# Altium footprint library WR-TBL_Spring Clamp_5.08mm.PcbLib: 47 footprints (part 1 of 3)
Each footprint in its own frame and in the unit in brackets; x right, y up, seen from the top. Pads: shape width x height; smd on the part's side, far side on the other; paste and mask are expansions set on the pad; w line width, h text height; cw(c..) or ccw(c..) is an arc to the next point about the centre after c.
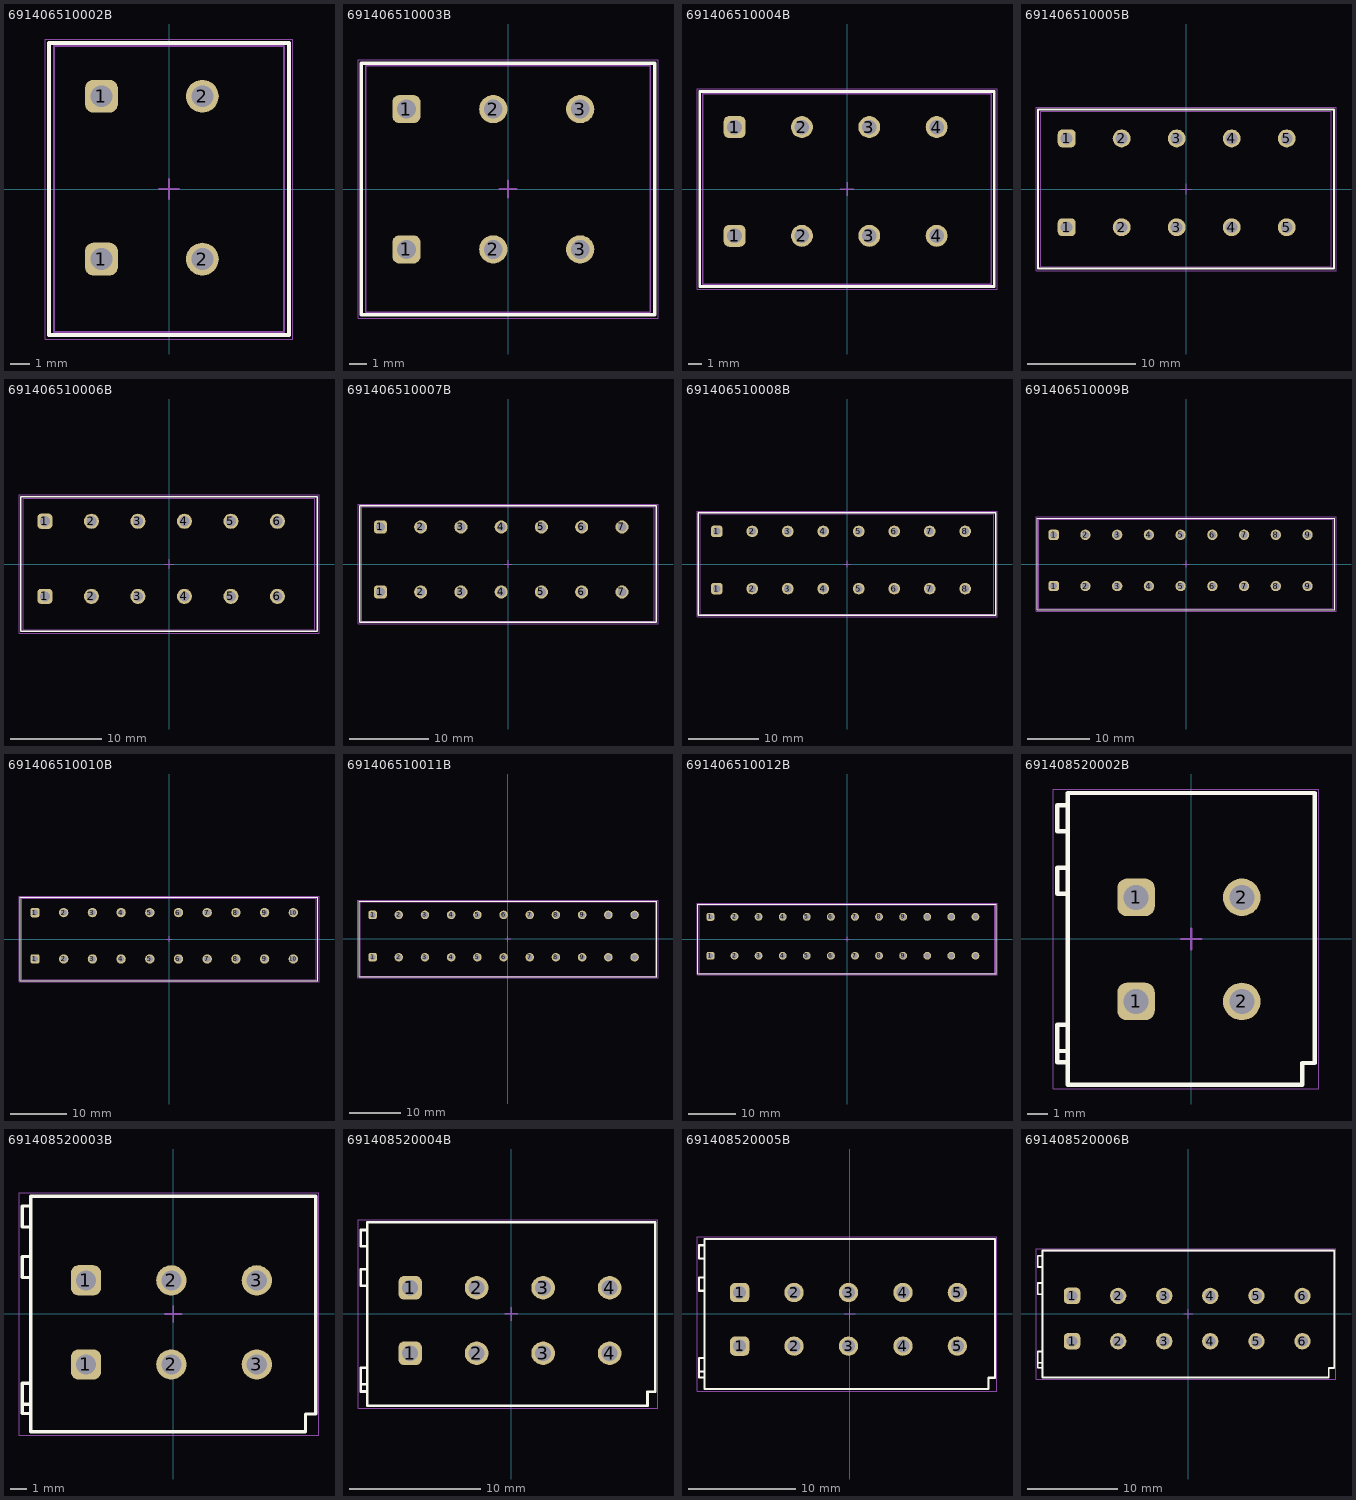
[diagram p0: the footprints below, top view; thin cyan lines are the x and y axes]

## 691406510002B [mm] "SERIE 4065B - 5.08MM HORIZONTAL SCREWLESS PUSH IN, 2p"
height 13.5
pads (4):
  rrect50% 1.65x1.65 hole 1.1: 1(-3.4,-3.53) 1(-3.4,4.67)
  round 1.65 hole 1.1: 2(1.68,-3.53) 2(1.68,4.67)
Top Overlay:
  lines w0.2: -6.03,-7.35 -6.03,7.35 6.03,7.35 6.03,-7.35 -6.03,-7.35
Top Assembly:
  lines w0.1: -5.78,-7.2 5.78,-7.2 5.78,7.2 -5.78,7.2 -5.78,-7.2
Top Designator:
  text ".Designator" at -3.647,-0.357 h1
Top 3D Body:
  lines w0.1: -5.78,-7.2 -5.78,7.2 5.78,7.2 5.78,-7.2 -5.78,-7.2
Top Courtyard:
  lines w0.05: -6.23,-7.55 6.23,-7.55 6.23,7.55 -6.23,7.55 -6.23,-7.55
Top Component Center:
  lines w0.1: -0.5,0 0.5,0 ; 0,-0.5 0,0.5
3D body "691406510002B.stp": height 13.55, standoff -2.45, extent -5.78,-7.2 5.78,7.2

## 691406510003B [mm] "SERIE 4065B - 5.08MM HORIZONTAL SCREWLESS PUSH IN, 3p"
height 13.5
pads (6):
  rrect50% 1.65x1.65 hole 1.1: 1(-5.94,-3.53) 1(-5.94,4.67)
  round 1.65 hole 1.1: 2(-0.86,-3.53) 2(-0.86,4.67) 3(4.22,-3.53) 3(4.22,4.67)
Top Overlay:
  lines w0.2: -8.57,-7.35 8.57,-7.35 8.57,7.35 -8.57,7.35 -8.57,-7.35
Top Assembly:
  lines w0.1: -8.32,-7.2 -8.32,7.2 8.32,7.2 8.32,-7.2 -8.32,-7.2
Top Designator:
  text ".Designator" at -3.647,-0.357 h1
Top 3D Body:
  lines w0.1: -8.32,-7.2 8.32,-7.2 8.32,7.2 -8.32,7.2 -8.32,-7.2
Top Courtyard:
  lines w0.05: -8.77,-7.55 -8.77,7.55 8.77,7.55 8.77,-7.55 -8.77,-7.55
Top Component Center:
  lines w0.1: -0.5,0 0.5,0 ; 0,-0.5 0,0.5
3D body "691406510003B.stp": height 13.55, standoff -2.45, extent -8.32,-7.2 8.32,7.2

## 691406510004B [mm] "SERIE 4065B - 5.08MM HORIZONTAL SCREWLESS PUSH IN, 4p"
height 13.5
pads (8):
  rrect50% 1.65x1.65 hole 1.1: 1(-8.48,-3.53) 1(-8.48,4.67)
  round 1.65 hole 1.1: 2(-3.4,-3.53) 2(-3.4,4.67) 3(1.68,-3.53) 3(1.68,4.67) 4(6.76,-3.53) 4(6.76,4.67)
Top Overlay:
  lines w0.2: -11.11,-7.35 -11.11,7.35 11.11,7.35 11.11,-7.35 -11.11,-7.35
Top Assembly:
  lines w0.1: -10.86,-7.2 10.86,-7.2 10.86,7.2 -10.86,7.2 -10.86,-7.2
Top Designator:
  text ".Designator" at -3.647,-0.357 h1
Top 3D Body:
  lines w0.1: -10.86,-7.2 -10.86,7.2 10.86,7.2 10.86,-7.2 -10.86,-7.2
Top Courtyard:
  lines w0.05: -11.31,-7.55 11.31,-7.55 11.31,7.55 -11.31,7.55 -11.31,-7.55
Top Component Center:
  lines w0.1: -0.5,0 0.5,0 ; 0,-0.5 0,0.5
3D body "691406510004B.stp": height 13.55, standoff -2.45, extent -10.86,-7.2 10.86,7.2

## 691406510005B [mm] "SERIE 4065B - 5.08MM HORIZONTAL SCREWLESS PUSH IN, 5p"
height 13.5
pads (10):
  rrect50% 1.65x1.65 hole 1.1: 1(-11.02,-3.53) 1(-11.02,4.67)
  round 1.65 hole 1.1: 2(-5.94,-3.53) 2(-5.94,4.67) 3(-0.86,-3.53) 3(-0.86,4.67) 4(4.22,-3.53) 4(4.22,4.67) 5(9.3,-3.53) 5(9.3,4.67)
Top Overlay:
  lines w0.2: -13.65,-7.35 13.65,-7.35 13.65,7.35 -13.65,7.35 -13.65,-7.35
Top Assembly:
  lines w0.1: -13.4,-7.2 -13.4,7.2 13.4,7.2 13.4,-7.2 -13.4,-7.2
Top Designator:
  text ".Designator" at -3.647,-0.357 h1
Top 3D Body:
  lines w0.1: -13.4,-7.2 13.4,-7.2 13.4,7.2 -13.4,7.2 -13.4,-7.2
Top Courtyard:
  lines w0.05: -13.85,-7.55 -13.85,7.55 13.85,7.55 13.85,-7.55 -13.85,-7.55
Top Component Center:
  lines w0.1: -0.5,0 0.5,0 ; 0,-0.5 0,0.5
3D body "691406510005B.stp": height 13.55, standoff -2.45, extent -13.4,-7.2 13.4,7.2

## 691406510006B [mm] "SERIE 4065B - 5.08MM HORIZONTAL SCREWLESS PUSH IN, 6p"
height 13.5
pads (12):
  rrect50% 1.65x1.65 hole 1.1: 1(-13.56,-3.53) 1(-13.56,4.67)
  round 1.65 hole 1.1: 2(-8.48,-3.53) 2(-8.48,4.67) 3(-3.4,-3.53) 3(-3.4,4.67) 4(1.68,-3.53) 4(1.68,4.67) 5(6.76,-3.53) 5(6.76,4.67) 6(11.84,-3.53) 6(11.84,4.67)
Top Overlay:
  lines w0.2: -16.19,-7.35 -16.19,7.35 16.19,7.35 16.19,-7.35 -16.19,-7.35
Top Assembly:
  lines w0.1: -15.94,-7.2 15.94,-7.2 15.94,7.2 -15.94,7.2 -15.94,-7.2
Top Designator:
  text ".Designator" at -3.647,-0.357 h1
Top 3D Body:
  lines w0.1: -15.94,-7.2 -15.94,7.2 15.94,7.2 15.94,-7.2 -15.94,-7.2
Top Courtyard:
  lines w0.05: -16.39,-7.55 16.39,-7.55 16.39,7.55 -16.39,7.55 -16.39,-7.55
Top Component Center:
  lines w0.1: -0.5,0 0.5,0 ; 0,-0.5 0,0.5
3D body "691406510006B.stp": height 13.55, standoff -2.45, extent -15.94,-7.2 15.94,7.2

## 691406510007B [mm] "SERIE 4065B - 5.08MM HORIZONTAL SCREWLESS PUSH IN, 7p"
height 13.5
pads (14):
  rrect50% 1.65x1.65 hole 1.1: 1(-16.1,-3.53) 1(-16.1,4.67)
  round 1.65 hole 1.1: 2(-11.02,-3.53) 2(-11.02,4.67) 3(-5.94,-3.53) 3(-5.94,4.67) 4(-0.86,-3.53) 4(-0.86,4.67) 5(4.22,-3.53) 5(4.22,4.67) 6(9.3,-3.53) 6(9.3,4.67) 7(14.38,-3.53) 7(14.38,4.67)
Top Overlay:
  lines w0.2: -18.73,-7.35 18.73,-7.35 18.73,7.35 -18.73,7.35 -18.73,-7.35
Top Assembly:
  lines w0.1: -18.48,-7.2 -18.48,7.2 18.48,7.2 18.48,-7.2 -18.48,-7.2
Top Designator:
  text ".Designator" at -3.647,-0.357 h1
Top 3D Body:
  lines w0.1: -18.48,-7.2 18.48,-7.2 18.48,7.2 -18.48,7.2 -18.48,-7.2
Top Courtyard:
  lines w0.05: -18.93,-7.55 -18.93,7.55 18.93,7.55 18.93,-7.55 -18.93,-7.55
Top Component Center:
  lines w0.1: -0.5,0 0.5,0 ; 0,-0.5 0,0.5
3D body "691406510007B.stp": height 13.55, standoff -2.45, extent -18.48,-7.2 18.48,7.2

## 691406510008B [mm] "SERIE 4065B - 5.08MM HORIZONTAL SCREWLESS PUSH IN, 8p"
height 13.5
pads (16):
  rrect50% 1.65x1.65 hole 1.1: 1(-18.64,-3.53) 1(-18.64,4.67)
  round 1.65 hole 1.1: 2(-13.56,-3.53) 2(-13.56,4.67) 3(-8.48,-3.53) 3(-8.48,4.67) 4(-3.4,-3.53) 4(-3.4,4.67) 5(1.68,-3.53) 5(1.68,4.67) 6(6.76,-3.53) 6(6.76,4.67) 7(11.84,-3.53) 7(11.84,4.67) 8(16.92,-3.53) 8(16.92,4.67)
Top Overlay:
  lines w0.2: -21.27,-7.35 21.27,-7.35 21.27,7.35 -21.27,7.35 -21.27,-7.35
Top Assembly:
  lines w0.1: -21.02,-7.2 -21.02,7.2 21.02,7.2 21.02,-7.2 -21.02,-7.2
Top Designator:
  text ".Designator" at -3.647,-0.357 h1
Top 3D Body:
  lines w0.1: -21.02,-7.2 21.02,-7.2 21.02,7.2 -21.02,7.2 -21.02,-7.2
Top Courtyard:
  lines w0.05: -21.47,-7.55 -21.47,7.55 21.47,7.55 21.47,-7.55 -21.47,-7.55
Top Component Center:
  lines w0.1: -0.5,0 0.5,0 ; 0,-0.5 0,0.5
3D body "691406510008B.stp": height 13.55, standoff -2.45, extent -21.02,-7.2 21.02,7.2

## 691406510009B [mm] "SERIE 4065B - 5.08MM HORIZONTAL SCREWLESS PUSH IN, 9p"
height 13.5
pads (18):
  rrect50% 1.65x1.65 hole 1.1: 1(-21.18,-3.53) 1(-21.18,4.67)
  round 1.65 hole 1.1: 2(-16.1,-3.53) 2(-16.1,4.67) 3(-11.02,-3.53) 3(-11.02,4.67) 4(-5.94,-3.53) 4(-5.94,4.67) 5(-0.86,-3.53) 5(-0.86,4.67) 6(4.22,-3.53) 6(4.22,4.67) 7(9.3,-3.53) 7(9.3,4.67) 8(14.38,-3.53) 8(14.38,4.67) 9(19.46,-3.53) 9(19.46,4.67)
Top Overlay:
  lines w0.2: -23.81,-7.35 -23.81,7.35 23.81,7.35 23.81,-7.35 -23.81,-7.35
Top Assembly:
  lines w0.1: -23.56,-7.2 23.56,-7.2 23.56,7.2 -23.56,7.2 -23.56,-7.2
Top Designator:
  text ".Designator" at -3.647,-0.357 h1
Top 3D Body:
  lines w0.1: -23.56,-7.2 -23.56,7.2 23.56,7.2 23.56,-7.2 -23.56,-7.2
Top Courtyard:
  lines w0.05: -24.01,-7.55 24.01,-7.55 24.01,7.55 -24.01,7.55 -24.01,-7.55
Top Component Center:
  lines w0.1: -0.5,0 0.5,0 ; 0,-0.5 0,0.5
3D body "691406510009B.stp": height 13.55, standoff -2.45, extent -23.56,-7.2 23.56,7.2

## 691406510010B [mm] "SERIE 4065B - 5.08MM HORIZONTAL SCREWLESS PUSH IN, 10p"
height 13.5
pads (20):
  rrect50% 1.65x1.65 hole 1.1: 1(-23.72,-3.53) 1(-23.72,4.67)
  round 1.65 hole 1.1: 2(-18.64,-3.53) 2(-18.64,4.67) 3(-13.56,-3.53) 3(-13.56,4.67) 4(-8.48,-3.53) 4(-8.48,4.67) 5(-3.4,-3.53) 5(-3.4,4.67) 6(1.68,-3.53) 6(1.68,4.67) 7(6.76,-3.53) 7(6.76,4.67) 8(11.84,-3.53) 8(11.84,4.67) 9(16.92,-3.53) 9(16.92,4.67) 10(22,-3.53) 10(22,4.67)
Top Overlay:
  lines w0.2: -26.35,-7.35 -26.35,7.35 26.35,7.35 26.35,-7.35 -26.35,-7.35
Top Assembly:
  lines w0.1: -26.1,-7.2 26.1,-7.2 26.1,7.2 -26.1,7.2 -26.1,-7.2
Top Designator:
  text ".Designator" at -3.647,-0.357 h1
Top 3D Body:
  lines w0.1: -26.1,-7.2 -26.1,7.2 26.1,7.2 26.1,-7.2 -26.1,-7.2
Top Courtyard:
  lines w0.05: -26.55,-7.55 26.55,-7.55 26.55,7.55 -26.55,7.55 -26.55,-7.55
Top Component Center:
  lines w0.1: -0.5,0 0.5,0 ; 0,-0.5 0,0.5
3D body "691406510010B.stp": height 13.55, standoff -2.45, extent -26.1,-7.2 26.1,7.2

## 691406510011B [mm] "SERIE 4065B - 5.08MM HORIZONTAL SCREWLESS PUSH IN, 11p"
height 13.5
pads (22):
  rrect50% 1.65x1.65 hole 1.1: 1(-26.26,-3.53) 1(-26.26,4.67)
  round 1.65 hole 1.1: 2(-21.18,-3.53) 2(-21.18,4.67) 3(-16.1,-3.53) 3(-16.1,4.67) 4(-11.02,-3.53) 4(-11.02,4.67) 5(-5.94,-3.53) 5(-5.94,4.67) 6(-0.86,-3.53) 6(-0.86,4.67) 7(4.22,-3.53) 7(4.22,4.67) 8(9.3,-3.53) 8(9.3,4.67) 9(14.38,-3.53) 9(14.38,4.67) 10(19.46,-3.53) 10(19.46,4.67) 11(24.54,-3.53) 11(24.54,4.67)
Top Overlay:
  lines w0.2: -28.89,-7.35 28.89,-7.35 28.89,7.35 -28.89,7.35 -28.89,-7.35
Top Assembly:
  lines w0.1: -28.64,-7.2 -28.64,7.2 28.64,7.2 28.64,-7.2 -28.64,-7.2
Top Designator:
  text ".Designator" at -3.647,-0.357 h1
Top 3D Body:
  lines w0.1: -28.64,-7.2 28.64,-7.2 28.64,7.2 -28.64,7.2 -28.64,-7.2
Top Courtyard:
  lines w0.05: -29.09,-7.55 -29.09,7.55 29.09,7.55 29.09,-7.55 -29.09,-7.55
Top Component Center:
  lines w0.1: -0.5,0 0.5,0 ; 0,-0.5 0,0.5
3D body "691406510011B.stp": height 13.55, standoff -2.45, extent -28.64,-7.2 28.64,7.2

## 691406510012B [mm] "SERIE 4065B - 5.08MM HORIZONTAL SCREWLESS PUSH IN, 12p"
height 13.5
pads (24):
  rrect50% 1.65x1.65 hole 1.1: 1(-28.8,-3.53) 1(-28.8,4.67)
  round 1.65 hole 1.1: 2(-23.72,-3.53) 2(-23.72,4.67) 3(-18.64,-3.53) 3(-18.64,4.67) 4(-13.56,-3.53) 4(-13.56,4.67) 5(-8.48,-3.53) 5(-8.48,4.67) 6(-3.4,-3.53) 6(-3.4,4.67) 7(1.68,-3.53) 7(1.68,4.67) 8(6.76,-3.53) 8(6.76,4.67) 9(11.84,-3.53) 9(11.84,4.67) 10(16.92,-3.53) 10(16.92,4.67) 11(22,-3.53) 11(22,4.67) 12(27.08,-3.53) 12(27.08,4.67)
Top Overlay:
  lines w0.2: -31.43,-7.35 -31.43,7.35 31.43,7.35 31.43,-7.35 -31.43,-7.35
Top Assembly:
  lines w0.1: -31.18,-7.2 31.18,-7.2 31.18,7.2 -31.18,7.2 -31.18,-7.2
Top Designator:
  text ".Designator" at -3.647,-0.357 h1
Top 3D Body:
  lines w0.1: -31.18,-7.2 -31.18,7.2 31.18,7.2 31.18,-7.2 -31.18,-7.2
Top Courtyard:
  lines w0.05: -31.63,-7.55 31.63,-7.55 31.63,7.55 -31.63,7.55 -31.63,-7.55
Top Component Center:
  lines w0.1: -0.5,0 0.5,0 ; 0,-0.5 0,0.5
3D body "691406510012B.stp": height 13.55, standoff -2.45, extent -31.18,-7.2 31.18,7.2

## 691408520002B [mm] "Terminal block -  Screwless Push In, 2p"
height 13.5
pads (4):
  rrect50% 1.8x1.8 hole 1.2: 1(-2.65,-3) 1(-2.65,2)
  round 1.8 hole 1.2: 2(2.43,-3) 2(2.43,2)
Top Overlay:
  lines w0.2: -6.43,-5.37 -5.93,-5.37 ; -5.93,-5.92 -6.43,-5.92 -6.43,-4.12 -5.93,-4.12 ; -5.93,2.17 -6.43,2.17 -6.43,3.42 -5.93,3.42 ; -5.93,5.17 -6.43,5.17 -6.43,6.42 -5.93,6.42 ; -5.93,-7 -5.93,7 5.93,7 5.93,-5.95 5.33,-5.95 5.33,-7 -5.93,-7
Top Assembly:
  lines w0.1: -6.43,-5.37 -5.93,-5.37 ; -5.93,-5.92 -6.43,-5.92 -6.43,-4.12 -5.93,-4.12 ; -5.93,2.17 -6.43,2.17 -6.43,3.42 -5.93,3.42 ; -5.93,5.17 -6.43,5.17 -6.43,6.42 -5.93,6.42 ; -5.93,-7 -5.93,7 5.93,7 5.93,-5.95 5.33,-5.95 5.33,-7 -5.93,-7
Top Designator:
  text ".Designator" at -3.647,-0.357 h1
Top 3D Body:
  lines w0.1: -6.43,-5.37 -5.93,-5.37 ; -5.93,-5.92 -6.43,-5.92 -6.43,-4.12 -5.93,-4.12 ; -5.93,2.17 -6.43,2.17 -6.43,3.42 -5.93,3.42 ; -5.93,5.17 -6.43,5.17 -6.43,6.42 -5.93,6.42 ; -5.93,-7 5.33,-7 5.33,-5.95 5.93,-5.95 5.93,7 -5.93,7 -5.93,-7
Top Courtyard:
  lines w0.05: -6.63,-7.2 6.13,-7.2 6.13,7.2 -6.63,7.2 -6.63,-7.2
Top Component Center:
  lines w0.1: -0.5,0 0.5,0 ; 0,-0.5 0,0.5
3D body "691408520002B.stp": height 13.55, standoff -4.3, extent -6.33,-6.9 5.93,7.1

## 691408520003B [mm] "Terminal block -  Screwless Push In, 3p"
height 13.5
pads (6):
  rrect50% 1.8x1.8 hole 1.2: 1(-5.19,-3) 1(-5.19,2)
  round 1.8 hole 1.2: 2(-0.11,-3) 2(-0.11,2) 3(4.97,-3) 3(4.97,2)
Top Overlay:
  lines w0.2: -8.97,-5.37 -8.47,-5.37 ; -8.47,-5.92 -8.97,-5.92 -8.97,-4.12 -8.47,-4.12 ; -8.47,2.17 -8.97,2.17 -8.97,3.42 -8.47,3.42 ; -8.47,5.17 -8.97,5.17 -8.97,6.42 -8.47,6.42 ; -8.47,-7 -8.47,7 8.47,7 8.47,-5.95 7.87,-5.95 7.87,-7 -8.47,-7
Top Assembly:
  lines w0.1: -8.97,-5.37 -8.47,-5.37 ; -8.47,-5.92 -8.97,-5.92 -8.97,-4.12 -8.47,-4.12 ; -8.47,2.17 -8.97,2.17 -8.97,3.42 -8.47,3.42 ; -8.47,5.17 -8.97,5.17 -8.97,6.42 -8.47,6.42 ; -8.47,-7 -8.47,7 8.47,7 8.47,-5.95 7.87,-5.95 7.87,-7 -8.47,-7
Top Designator:
  text ".Designator" at -3.647,-0.357 h1
Top 3D Body:
  lines w0.1: -8.97,-5.37 -8.47,-5.37 ; -8.47,-5.92 -8.97,-5.92 -8.97,-4.12 -8.47,-4.12 ; -8.47,2.17 -8.97,2.17 -8.97,3.42 -8.47,3.42 ; -8.47,5.17 -8.97,5.17 -8.97,6.42 -8.47,6.42 ; -8.47,-7 7.87,-7 7.87,-5.95 8.47,-5.95 8.47,7 -8.47,7 -8.47,-7
Top Courtyard:
  lines w0.05: -9.17,-7.2 8.67,-7.2 8.67,7.2 -9.17,7.2 -9.17,-7.2
Top Component Center:
  lines w0.1: -0.5,0 0.5,0 ; 0,-0.5 0,0.5
3D body "691408520003B.stp": height 13.55, standoff -4.3, extent -8.87,-6.9 8.47,7.1

## 691408520004B [mm] "Terminal block -  Screwless Push In, 4p"
height 13.5
pads (8):
  rrect50% 1.8x1.8 hole 1.2: 1(-7.73,-3) 1(-7.73,2)
  round 1.8 hole 1.2: 2(-2.65,-3) 2(-2.65,2) 3(2.43,-3) 3(2.43,2) 4(7.51,-3) 4(7.51,2)
Top Overlay:
  lines w0.2: -11.51,-5.37 -11.01,-5.37 ; -11.01,-5.92 -11.51,-5.92 -11.51,-4.12 -11.01,-4.12 ; -11.01,2.17 -11.51,2.17 -11.51,3.42 -11.01,3.42 ; -11.01,5.17 -11.51,5.17 -11.51,6.42 -11.01,6.42 ; -11.01,-7 10.41,-7 10.41,-5.95 11.01,-5.95 11.01,7 -11.01,7 -11.01,-7
Top Assembly:
  lines w0.1: -11.51,-5.37 -11.01,-5.37 ; -11.01,-5.92 -11.51,-5.92 -11.51,-4.12 -11.01,-4.12 ; -11.01,2.17 -11.51,2.17 -11.51,3.42 -11.01,3.42 ; -11.01,5.17 -11.51,5.17 -11.51,6.42 -11.01,6.42 ; -11.01,-7 10.41,-7 10.41,-5.95 11.01,-5.95 11.01,7 -11.01,7 -11.01,-7
Top Designator:
  text ".Designator" at -3.647,-0.357 h1
Top 3D Body:
  lines w0.1: -11.51,-5.37 -11.01,-5.37 ; -11.01,-5.92 -11.51,-5.92 -11.51,-4.12 -11.01,-4.12 ; -11.01,2.17 -11.51,2.17 -11.51,3.42 -11.01,3.42 ; -11.01,5.17 -11.51,5.17 -11.51,6.42 -11.01,6.42 ; -11.01,-7 -11.01,7 11.01,7 11.01,-5.95 10.41,-5.95 10.41,-7 -11.01,-7
Top Courtyard:
  lines w0.05: -11.71,-7.2 -11.71,7.2 11.21,7.2 11.21,-7.2 -11.71,-7.2
Top Component Center:
  lines w0.1: -0.5,0 0.5,0 ; 0,-0.5 0,0.5
3D body "691408520004B.stp": height 13.55, standoff -4.3, extent -11.41,-6.9 11.01,7.1

## 691408520005B [mm] "Terminal block -  Screwless Push In, 5p"
height 13.5
pads (10):
  rrect50% 1.8x1.8 hole 1.2: 1(-10.27,-3) 1(-10.27,2)
  round 1.8 hole 1.2: 2(-5.19,-3) 2(-5.19,2) 3(-0.11,-3) 3(-0.11,2) 4(4.97,-3) 4(4.97,2) 5(10.05,-3) 5(10.05,2)
Top Overlay:
  lines w0.2: -14.05,-5.37 -13.55,-5.37 ; -13.55,-5.92 -14.05,-5.92 -14.05,-4.12 -13.55,-4.12 ; -13.55,2.17 -14.05,2.17 -14.05,3.42 -13.55,3.42 ; -13.55,5.17 -14.05,5.17 -14.05,6.42 -13.55,6.42 ; -13.55,-7 12.95,-7 12.95,-5.95 13.55,-5.95 13.55,7 -13.55,7 -13.55,-7
Top Assembly:
  lines w0.1: -14.05,-5.37 -13.55,-5.37 ; -13.55,-5.92 -14.05,-5.92 -14.05,-4.12 -13.55,-4.12 ; -13.55,2.17 -14.05,2.17 -14.05,3.42 -13.55,3.42 ; -13.55,5.17 -14.05,5.17 -14.05,6.42 -13.55,6.42 ; -13.55,-7 12.95,-7 12.95,-5.95 13.55,-5.95 13.55,7 -13.55,7 -13.55,-7
Top Designator:
  text ".Designator" at -3.647,-0.357 h1
Top 3D Body:
  lines w0.1: -14.05,-5.37 -13.55,-5.37 ; -13.55,-5.92 -14.05,-5.92 -14.05,-4.12 -13.55,-4.12 ; -13.55,2.17 -14.05,2.17 -14.05,3.42 -13.55,3.42 ; -13.55,5.17 -14.05,5.17 -14.05,6.42 -13.55,6.42 ; -13.55,-7 -13.55,7 13.55,7 13.55,-5.95 12.95,-5.95 12.95,-7 -13.55,-7
Top Courtyard:
  lines w0.05: -14.25,-7.2 -14.25,7.2 13.75,7.2 13.75,-7.2 -14.25,-7.2
Top Component Center:
  lines w0.1: -0.5,0 0.5,0 ; 0,-0.5 0,0.5
3D body "691408520005B.stp": height 13.55, standoff -4.3, extent -13.95,-6.9 13.55,7.1

## 691408520006B [mm] "Terminal block -  Screwless Push In, 6p"
height 13.5
pads (12):
  rrect50% 1.8x1.8 hole 1.2: 1(-12.81,-3) 1(-12.81,2)
  round 1.8 hole 1.2: 2(-7.73,-3) 2(-7.73,2) 3(-2.65,-3) 3(-2.65,2) 4(2.43,-3) 4(2.43,2) 5(7.51,-3) 5(7.51,2) 6(12.59,-3) 6(12.59,2)
Top Overlay:
  lines w0.2: -16.59,-5.37 -16.09,-5.37 ; -16.09,-5.92 -16.59,-5.92 -16.59,-4.12 -16.09,-4.12 ; -16.09,2.17 -16.59,2.17 -16.59,3.42 -16.09,3.42 ; -16.09,5.17 -16.59,5.17 -16.59,6.42 -16.09,6.42 ; -16.09,-7 15.49,-7 15.49,-5.95 16.09,-5.95 16.09,7 -16.09,7 -16.09,-7
Top Assembly:
  lines w0.1: -16.59,-5.37 -16.09,-5.37 ; -16.09,-5.92 -16.59,-5.92 -16.59,-4.12 -16.09,-4.12 ; -16.09,2.17 -16.59,2.17 -16.59,3.42 -16.09,3.42 ; -16.09,5.17 -16.59,5.17 -16.59,6.42 -16.09,6.42 ; -16.09,-7 15.49,-7 15.49,-5.95 16.09,-5.95 16.09,7 -16.09,7 -16.09,-7
Top Designator:
  text ".Designator" at -3.647,-0.357 h1
Top 3D Body:
  lines w0.1: -16.59,-5.37 -16.09,-5.37 ; -16.09,-5.92 -16.59,-5.92 -16.59,-4.12 -16.09,-4.12 ; -16.09,2.17 -16.59,2.17 -16.59,3.42 -16.09,3.42 ; -16.09,5.17 -16.59,5.17 -16.59,6.42 -16.09,6.42 ; -16.09,-7 -16.09,7 16.09,7 16.09,-5.95 15.49,-5.95 15.49,-7 -16.09,-7
Top Courtyard:
  lines w0.05: -16.79,-7.2 -16.79,7.2 16.29,7.2 16.29,-7.2 -16.79,-7.2
Top Component Center:
  lines w0.1: -0.5,0 0.5,0 ; 0,-0.5 0,0.5
3D body "691408520006B.stp": height 13.55, standoff -4.3, extent -16.49,-6.9 16.09,7.1